# Altium schematic symbol library Terminal_Blocks_Rising Cage Clamp_5.08mm.SchLib: 4 symbols
Pins are listed as number, name and electrical type; pins without a type are passive.

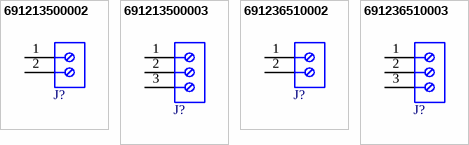
[diagram p0: symbols 691213500002 to 691236510003]

## 691213500002
designator J?, comment 14A, 300V  (value not drawn)
WR-TBL Series 2135 Vertical Entry Modular, THT, pitch 5.08mm, 2p; Manufacturer Part Number: 691213500002; Manufacturer: Wurth Elektronik; Modularity: Yes; ComponentLink1Description: Datasheet; ComponentLink1URL: https://www.we-online.com/redexpert/spec/691213500002?ad; Category: Terminal Blocks; Match Code: WR-TBL; Mount: Through Hole; Operating Temperature Max: 120°C; Operating Temperature Min: -30°C; Packaging: Box; Application: Rising Cage Clamp; Number of Pins: 2; Number of Rows: 1; Orientation: Vertical; Pitch: 5.08mm; Rated Current: 14A; Working Voltage: 300V; Supplier 1 URL: N/A; Supplier 2 URL: N/A; Supplier 3 URL: N/A; Value: 14A, 300V; LCSC Part #: N/A; Supplier 1: Mouser; Supplier 1 Part Number: N/A; Supplier 2: Digi-Key; Supplier 2 Part Number: N/A; Supplier 3: thegioiic; Supplier 3 Part Number: N/A
footprint 691213500002
pins: 1, 2

## 691213500003
designator J?, comment 14A, 300V  (value not drawn)
WR-TBL Series 2135 Vertical Entry Modular, THT, pitch 5.08mm, 3p; Manufacturer Part Number: 691213500003; Manufacturer: Wurth Elektronik; Modularity: Yes; ComponentLink1Description: Datasheet; ComponentLink1URL: https://www.we-online.com/redexpert/spec/691213500003?ad; Category: Terminal Blocks; Match Code: WR-TBL; Mount: Through Hole; Operating Temperature Max: 120°C; Operating Temperature Min: -30°C; Packaging: Box; Application: Rising Cage Clamp; Number of Pins: 3; Number of Rows: 1; Orientation: Vertical; Pitch: 5.08mm; Rated Current: 14A; Working Voltage: 300V; Supplier 1 URL: N/A; Supplier 2 URL: N/A; Supplier 3 URL: https://www.thegioiic.com/kf126-3-r-domino-3-chan-cong-5-08mm-300v-10a-han-pcb; Value: 14A, 300V; LCSC Part #: N/A; Supplier 1: Mouser; Supplier 1 Part Number: N/A; Supplier 2: Digi-Key; Supplier 2 Part Number: N/A; Supplier 3: thegioiic; Supplier 3 Part Number: N/A
footprint 691213500003
pins: 1, 2, 3

## 691236510002
designator J?, comment 20A, 300V  (value not drawn)
WR-TBL Series 2365 Horizontal Entry, THT, pitch 5.08mm, 2p; Manufacturer Part Number: 691236510002; Manufacturer: Wurth Elektronik; Modularity: Yes; ComponentLink1Description: Datasheet; ComponentLink1URL: https://www.we-online.com/redexpert/spec/691236510002?ad; Category: Terminal Blocks; Match Code: WR-TBL; Mount: Through Hole; Operating Temperature Max: 120°C; Operating Temperature Min: -30°C; Packaging: Box; Application: Rising Cage Clamp; Number of Pins: 2; Number of Rows: 1; Orientation: Horizontal; Pitch: 5.08mm; Rated Current: 20A; Working Voltage: 300V; Supplier 1 URL: N/A; Supplier 2 URL: N/A; Supplier 3 URL: https://www.thegioiic.com/kf126-2-v-domino-2-chan-thang-5-08mm-300v-10a-han-pcb; Value: 20A, 300V; LCSC Part #: N/A; Supplier 1: Mouser; Supplier 1 Part Number: N/A; Supplier 2: Digi-Key; Supplier 2 Part Number: N/A; Supplier 3: thegioiic; Supplier 3 Part Number: N/A
footprint 691236510002
pins: 1, 2

## 691236510003
designator J?, comment 20A, 300V  (value not drawn)
WR-TBL Series 2365 Horizontal Entry, THT, pitch 5.08mm, 3p; Manufacturer Part Number: 691236510003; Manufacturer: Wurth Elektronik; Modularity: Yes; ComponentLink1Description: Datasheet; ComponentLink1URL: https://www.we-online.com/redexpert/spec/691236510003?ad; Category: Terminal Blocks; Match Code: WR-TBL; Mount: Through Hole; Operating Temperature Max: 120°C; Operating Temperature Min: -30°C; Packaging: Box; Application: Rising Cage Clamp; Number of Pins: 3; Number of Rows: 1; Orientation: Horizontal; Pitch: 5.08mm; Rated Current: 20A; Working Voltage: 300V; Supplier 1 URL: N/A; Supplier 2 URL: N/A; Supplier 3 URL: https://www.thegioiic.com/kf126v-3-v-domino-3-chan-thang-5-08mm-300v-10a-han-pcb; Value: 20A, 300V; LCSC Part #: N/A; Supplier 1: Mouser; Supplier 1 Part Number: N/A; Supplier 2: Digi-Key; Supplier 2 Part Number: N/A; Supplier 3: thegioiic; Supplier 3 Part Number: N/A
footprint 691236510003
pins: 1, 2, 3